# Altium footprint library con-hirose.PCBLIB: 71 footprints (part 5 of 6)
Each footprint in its own frame and in the unit in brackets; x right, y up, seen from the top. Pads: shape width x height; smd on the part's side, far side on the other; paste and mask are expansions set on the pad; w line width, h text height; cw(c..) or ccw(c..) is an arc to the next point about the centre after c.
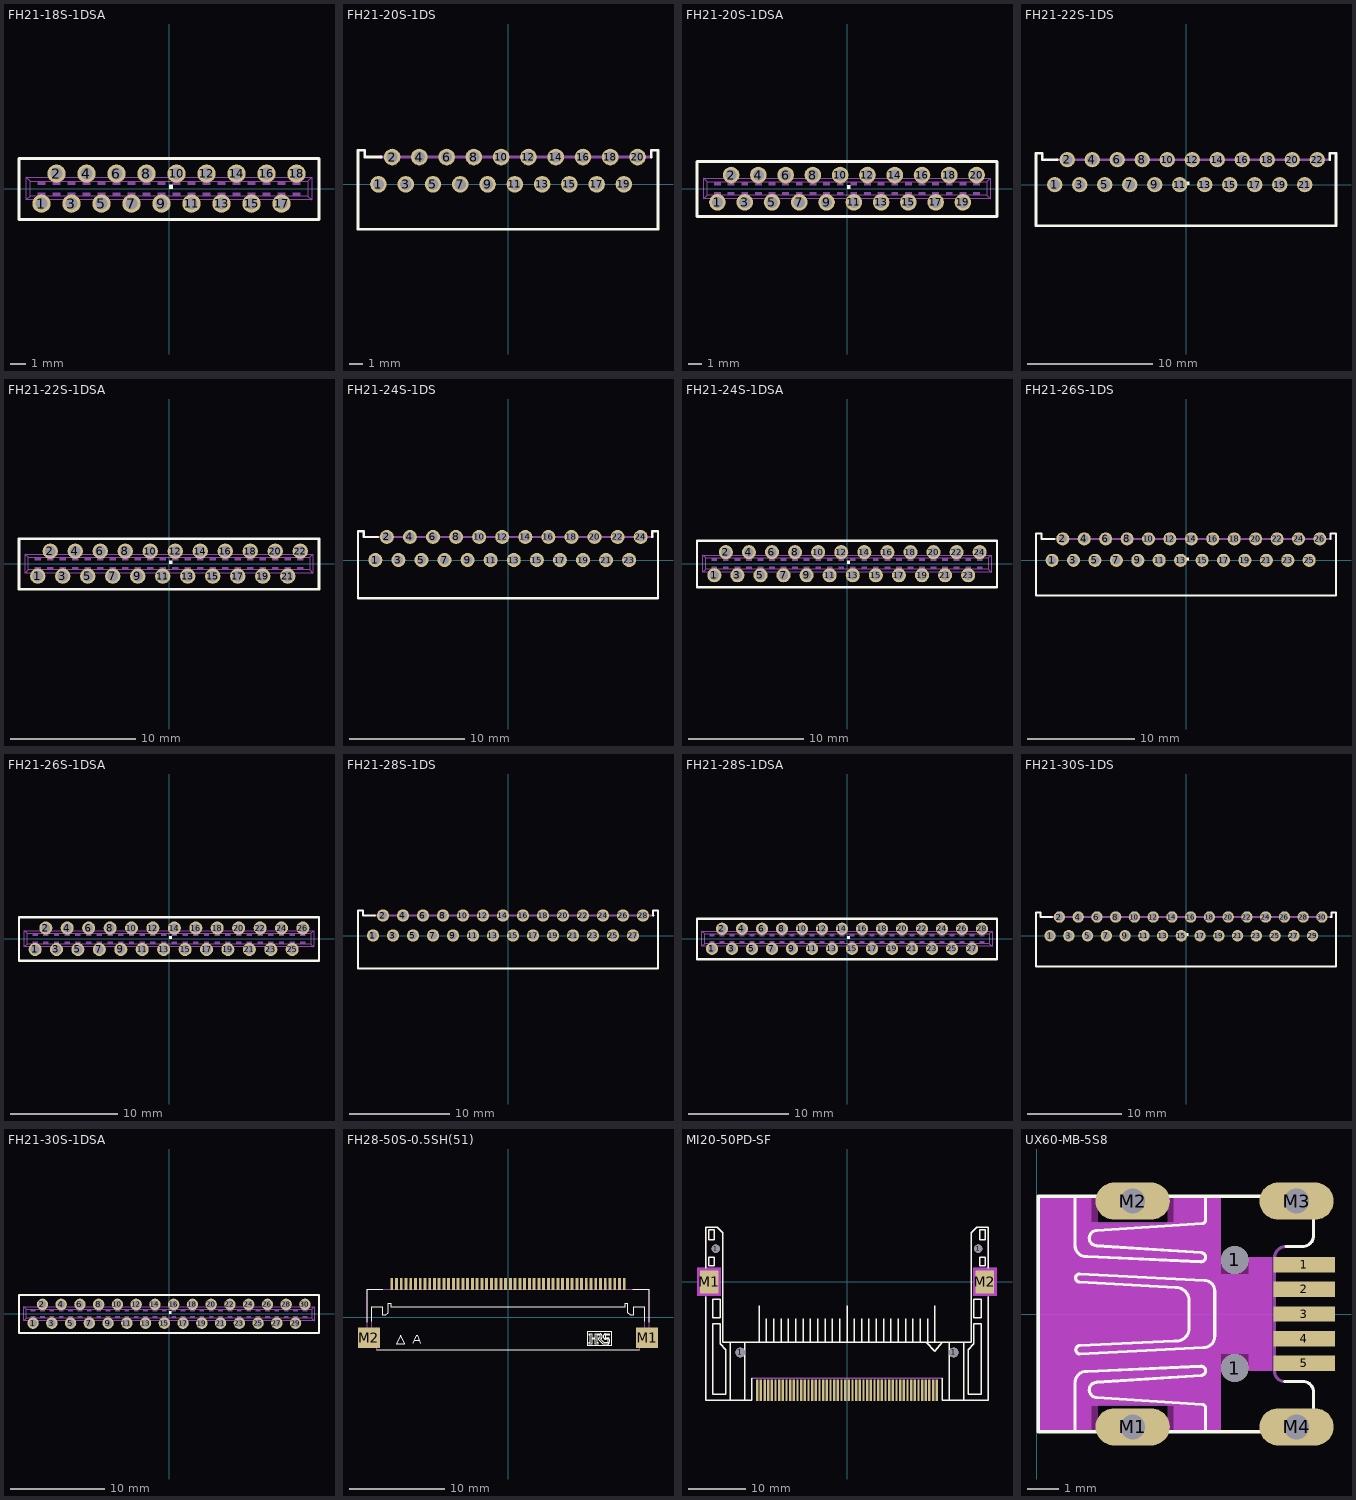
[diagram p4: the footprints below, top view; thin cyan lines are the x and y axes]

## FH21-18S-1DSA [mil]
pads (18):
  round 48 hole 32: 1(-334.65,-39.37) 2(-295.28,39.37) 3(-255.91,-39.37) 4(-216.54,39.37) 5(-177.17,-39.37) 6(-137.8,39.37) 7(-98.43,-39.37) 8(-59.06,39.37) 9(-19.69,-39.37) 10(19.69,39.37) 11(59.06,-39.37) 12(98.43,39.37) 13(137.8,-39.37) 14(177.17,39.37) 15(216.54,-39.37) 16(255.91,39.37) 17(295.28,-39.37) 18(334.65,39.37)
Top Overlay:
  region: 0,0 10,0 10,10 0,10
  lines w8: -393.7,-80.71 393.7,-80.71 393.7,78.74 -393.7,78.74 -393.7,-80.71
Mechanical 16:
  rectangle: -344.49,-19.69 -324.8,-9.84
  rectangle: -344.49,9.84 -324.8,19.69
  rectangle: -305.12,9.84 -285.43,19.69
  rectangle: -305.12,-19.69 -285.43,-9.84
  rectangle: -265.75,9.84 -246.06,19.69
  rectangle: -265.75,-19.69 -246.06,-9.84
  rectangle: -226.38,9.84 -206.69,19.69
  rectangle: -226.38,-19.69 -206.69,-9.84
  rectangle: -187.01,9.84 -167.32,19.69
  rectangle: -187.01,-19.69 -167.32,-9.84
  rectangle: -147.64,9.84 -127.95,19.69
  rectangle: -147.64,-19.69 -127.95,-9.84
  rectangle: -108.27,9.84 -88.58,19.69
  rectangle: -68.9,9.84 -49.21,19.69
  rectangle: -29.53,9.84 -9.84,19.69
  rectangle: 9.84,9.84 29.53,19.69
  rectangle: -108.27,-19.69 -88.58,-9.84
  rectangle: -68.9,-19.69 -49.21,-9.84
  rectangle: -29.53,-19.69 -9.84,-9.84
  rectangle: 9.84,-19.69 29.53,-9.84
  rectangle: 88.58,9.84 108.27,19.69
  rectangle: 49.21,9.84 68.9,19.69
  rectangle: 49.21,-19.69 68.9,-9.84
  rectangle: 88.58,-19.69 108.27,-9.84
  rectangle: 127.95,9.84 147.64,19.69
  rectangle: 167.32,9.84 187.01,19.69
  rectangle: 127.95,-19.69 147.64,-9.84
  rectangle: 167.32,-19.69 187.01,-9.84
  rectangle: 206.69,9.84 226.38,19.69
  rectangle: 246.06,9.84 265.75,19.69
  rectangle: 206.69,-19.69 226.38,-9.84
  rectangle: 246.06,-19.69 265.75,-9.84
  rectangle: 285.43,9.84 305.12,19.69
  rectangle: 324.8,9.84 344.49,19.69
  rectangle: 285.43,-19.69 305.12,-9.84
  rectangle: 324.8,-19.69 344.49,-9.84
  lines w2: -374.02,-29.53 374.02,-29.53 ; -374.02,-29.53 -374.02,29.53 ; -374.02,-29.53 -364.17,-19.69 ; -374.02,29.53 374.02,29.53 ; -374.02,29.53 -364.17,19.69 ; -364.17,-19.69 364.17,-19.69 ; -364.17,-19.69 -364.17,19.69 ; -364.17,19.69 364.17,19.69 ; 364.17,-19.69 364.17,19.69 ; 364.17,-19.69 374.02,-29.53 ; 364.17,19.69 374.02,29.53 ; 374.02,-29.53 374.02,29.53

## FH21-20S-1DS [mil]
pads (20):
  round 48 hole 32: 1(-374.02,0) 2(-334.65,78.74) 3(-295.28,0) 4(-255.91,78.74) 5(-216.54,0) 6(-177.17,78.74) 7(-137.8,0) 8(-98.43,78.74) 9(-59.06,0) 10(-19.69,78.74) 11(19.69,0) 12(59.06,78.74) 13(98.43,0) 14(137.8,78.74) 15(177.17,0) 16(216.54,78.74) 17(255.91,0) 18(295.28,78.74) 19(334.65,0) 20(374.02,78.74)
Top Overlay:
  region: 0,0 10,0 10,10 0,10
  lines w8: -366.14,78.74 -413.39,78.74 -413.39,98.43 -433.07,98.43 -433.07,-129.92 433.07,-129.92 433.07,98.43 413.39,98.43 413.39,78.74
Mechanical 16:
  lines w8: -366.14,78.74 413.39,78.74

## FH21-20S-1DSA [mil]
pads (20):
  round 48 hole 32: 1(-374.02,-39.37) 2(-334.65,39.37) 3(-295.28,-39.37) 4(-255.91,39.37) 5(-216.54,-39.37) 6(-177.17,39.37) 7(-137.8,-39.37) 8(-98.43,39.37) 9(-59.06,-39.37) 10(-19.69,39.37) 11(19.69,-39.37) 12(59.06,39.37) 13(98.43,-39.37) 14(137.8,39.37) 15(177.17,-39.37) 16(216.54,39.37) 17(255.91,-39.37) 18(295.28,39.37) 19(334.65,-39.37) 20(374.02,39.37)
Top Overlay:
  region: 0,0 10,0 10,10 0,10
  lines w8: -433.07,-80.71 433.07,-80.71 433.07,78.74 -433.07,78.74 -433.07,-80.71
Mechanical 16:
  rectangle: -383.86,-19.69 -364.17,-9.84
  rectangle: -383.86,9.84 -364.17,19.69
  rectangle: -344.49,9.84 -324.8,19.69
  rectangle: -344.49,-19.69 -324.8,-9.84
  rectangle: -305.12,9.84 -285.43,19.69
  rectangle: -305.12,-19.69 -285.43,-9.84
  rectangle: -265.75,9.84 -246.06,19.69
  rectangle: -265.75,-19.69 -246.06,-9.84
  rectangle: -226.38,9.84 -206.69,19.69
  rectangle: -226.38,-19.69 -206.69,-9.84
  rectangle: -187.01,9.84 -167.32,19.69
  rectangle: -187.01,-19.69 -167.32,-9.84
  rectangle: -147.64,9.84 -127.95,19.69
  rectangle: -108.27,9.84 -88.58,19.69
  rectangle: -68.9,9.84 -49.21,19.69
  rectangle: -29.53,9.84 -9.84,19.69
  rectangle: -147.64,-19.69 -127.95,-9.84
  rectangle: -108.27,-19.69 -88.58,-9.84
  rectangle: -68.9,-19.69 -49.21,-9.84
  rectangle: -29.53,-19.69 -9.84,-9.84
  rectangle: 49.21,9.84 68.9,19.69
  rectangle: 9.84,9.84 29.53,19.69
  rectangle: 9.84,-19.69 29.53,-9.84
  rectangle: 49.21,-19.69 68.9,-9.84
  rectangle: 88.58,9.84 108.27,19.69
  rectangle: 127.95,9.84 147.64,19.69
  rectangle: 88.58,-19.69 108.27,-9.84
  rectangle: 127.95,-19.69 147.64,-9.84
  rectangle: 167.32,9.84 187.01,19.69
  rectangle: 206.69,9.84 226.38,19.69
  rectangle: 167.32,-19.69 187.01,-9.84
  rectangle: 206.69,-19.69 226.38,-9.84
  rectangle: 246.06,9.84 265.75,19.69
  rectangle: 285.43,9.84 305.12,19.69
  rectangle: 246.06,-19.69 265.75,-9.84
  rectangle: 285.43,-19.69 305.12,-9.84
  rectangle: 324.8,9.84 344.49,19.69
  rectangle: 364.17,9.84 383.86,19.69
  rectangle: 324.8,-19.69 344.49,-9.84
  rectangle: 364.17,-19.69 383.86,-9.84
  lines w2: -413.39,-29.53 413.39,-29.53 ; -413.39,-29.53 -413.39,29.53 ; -413.39,-29.53 -403.54,-19.69 ; -413.39,29.53 413.39,29.53 ; -413.39,29.53 -403.54,19.69 ; -403.54,-19.69 403.54,-19.69 ; -403.54,-19.69 -403.54,19.69 ; -403.54,19.69 403.54,19.69 ; 403.54,-19.69 403.54,19.69 ; 403.54,-19.69 413.39,-29.53 ; 403.54,19.69 413.39,29.53 ; 413.39,-29.53 413.39,29.53

## FH21-22S-1DS [mil]
pads (22):
  round 48 hole 32: 1(-413.39,0) 2(-374.02,78.74) 3(-334.65,0) 4(-295.28,78.74) 5(-255.91,0) 6(-216.54,78.74) 7(-177.17,0) 8(-137.8,78.74) 9(-98.43,0) 10(-59.06,78.74) 11(-19.69,0) 12(19.69,78.74) 13(59.06,0) 14(98.43,78.74) 15(137.8,0) 16(177.17,78.74) 17(216.54,0) 18(255.91,78.74) 19(295.28,0) 20(334.65,78.74) 21(374.02,0) 22(413.39,78.74)
Top Overlay:
  region: 0,0 10,0 10,10 0,10
  lines w8: -405.51,78.74 -452.76,78.74 -452.76,98.43 -472.44,98.43 -472.44,-129.92 472.44,-129.92 472.44,98.43 452.76,98.43 452.76,78.74
Mechanical 16:
  lines w8: -405.51,78.74 452.76,78.74

## FH21-22S-1DSA [mil]
pads (22):
  round 48 hole 32: 1(-413.39,-39.37) 2(-374.02,39.37) 3(-334.65,-39.37) 4(-295.28,39.37) 5(-255.91,-39.37) 6(-216.54,39.37) 7(-177.17,-39.37) 8(-137.8,39.37) 9(-98.43,-39.37) 10(-59.06,39.37) 11(-19.69,-39.37) 12(19.69,39.37) 13(59.06,-39.37) 14(98.43,39.37) 15(137.8,-39.37) 16(177.17,39.37) 17(216.54,-39.37) 18(255.91,39.37) 19(295.28,-39.37) 20(334.65,39.37) 21(374.02,-39.37) 22(413.39,39.37)
Top Overlay:
  region: 0,0 10,0 10,10 0,10
  lines w8: -472.44,-80.71 472.44,-80.71 472.44,78.74 -472.44,78.74 -472.44,-80.71
Mechanical 16:
  rectangle: -423.23,-19.69 -403.54,-9.84
  rectangle: -423.23,9.84 -403.54,19.69
  rectangle: -383.86,9.84 -364.17,19.69
  rectangle: -383.86,-19.69 -364.17,-9.84
  rectangle: -344.49,9.84 -324.8,19.69
  rectangle: -344.49,-19.69 -324.8,-9.84
  rectangle: -305.12,9.84 -285.43,19.69
  rectangle: -305.12,-19.69 -285.43,-9.84
  rectangle: -265.75,9.84 -246.06,19.69
  rectangle: -265.75,-19.69 -246.06,-9.84
  rectangle: -226.38,9.84 -206.69,19.69
  rectangle: -226.38,-19.69 -206.69,-9.84
  rectangle: -187.01,9.84 -167.32,19.69
  rectangle: -147.64,9.84 -127.95,19.69
  rectangle: -108.27,9.84 -88.58,19.69
  rectangle: -68.9,9.84 -49.21,19.69
  rectangle: -187.01,-19.69 -167.32,-9.84
  rectangle: -147.64,-19.69 -127.95,-9.84
  rectangle: -108.27,-19.69 -88.58,-9.84
  rectangle: -68.9,-19.69 -49.21,-9.84
  rectangle: 9.84,9.84 29.53,19.69
  rectangle: -29.53,9.84 -9.84,19.69
  rectangle: -29.53,-19.69 -9.84,-9.84
  rectangle: 9.84,-19.69 29.53,-9.84
  rectangle: 49.21,9.84 68.9,19.69
  rectangle: 88.58,9.84 108.27,19.69
  rectangle: 49.21,-19.69 68.9,-9.84
  rectangle: 88.58,-19.69 108.27,-9.84
  rectangle: 127.95,9.84 147.64,19.69
  rectangle: 167.32,9.84 187.01,19.69
  rectangle: 127.95,-19.69 147.64,-9.84
  rectangle: 167.32,-19.69 187.01,-9.84
  rectangle: 206.69,9.84 226.38,19.69
  rectangle: 246.06,9.84 265.75,19.69
  rectangle: 206.69,-19.69 226.38,-9.84
  rectangle: 246.06,-19.69 265.75,-9.84
  rectangle: 285.43,9.84 305.12,19.69
  rectangle: 324.8,9.84 344.49,19.69
  rectangle: 285.43,-19.69 305.12,-9.84
  rectangle: 324.8,-19.69 344.49,-9.84
  rectangle: 364.17,9.84 383.86,19.69
  rectangle: 403.54,9.84 423.23,19.69
  rectangle: 364.17,-19.69 383.86,-9.84
  rectangle: 403.54,-19.69 423.23,-9.84
  lines w2: -452.76,-29.53 452.76,-29.53 ; -452.76,-29.53 -452.76,29.53 ; -452.76,-29.53 -442.91,-19.69 ; -452.76,29.53 452.76,29.53 ; -452.76,29.53 -442.91,19.69 ; -442.91,-19.69 442.91,-19.69 ; -442.91,-19.69 -442.91,19.69 ; -442.91,19.69 442.91,19.69 ; 442.91,-19.69 442.91,19.69 ; 442.91,-19.69 452.76,-29.53 ; 442.91,19.69 452.76,29.53 ; 452.76,-29.53 452.76,29.53

## FH21-24S-1DS [mil]
pads (24):
  round 48 hole 32: 1(-452.76,0) 2(-413.39,78.74) 3(-374.02,0) 4(-334.65,78.74) 5(-295.28,0) 6(-255.91,78.74) 7(-216.54,0) 8(-177.17,78.74) 9(-137.8,0) 10(-98.43,78.74) 11(-59.06,0) 12(-19.69,78.74) 13(19.69,0) 14(59.06,78.74) 15(98.43,0) 16(137.8,78.74) 17(177.17,0) 18(216.54,78.74) 19(255.91,0) 20(295.28,78.74) 21(334.65,0) 22(374.02,78.74) 23(413.39,0) 24(452.76,78.74)
Top Overlay:
  region: 0,0 10,0 10,10 0,10
  lines w8: -444.88,78.74 -492.13,78.74 -492.13,98.43 -511.81,98.43 -511.81,-129.92 511.81,-129.92 511.81,98.43 492.13,98.43 492.13,78.74
Mechanical 16:
  lines w8: -444.88,78.74 492.13,78.74

## FH21-24S-1DSA [mil]
pads (24):
  round 48 hole 32: 1(-452.76,-39.37) 2(-413.39,39.37) 3(-374.02,-39.37) 4(-334.65,39.37) 5(-295.28,-39.37) 6(-255.91,39.37) 7(-216.54,-39.37) 8(-177.17,39.37) 9(-137.8,-39.37) 10(-98.43,39.37) 11(-59.06,-39.37) 12(-19.69,39.37) 13(19.69,-39.37) 14(59.06,39.37) 15(98.43,-39.37) 16(137.8,39.37) 17(177.17,-39.37) 18(216.54,39.37) 19(255.91,-39.37) 20(295.28,39.37) 21(334.65,-39.37) 22(374.02,39.37) 23(413.39,-39.37) 24(452.76,39.37)
Top Overlay:
  region: 0,0 10,0 10,10 0,10
  lines w8: -511.81,-80.71 511.81,-80.71 511.81,78.74 -511.81,78.74 -511.81,-80.71
Mechanical 16:
  rectangle: -462.6,-19.69 -442.91,-9.84
  rectangle: -462.6,9.84 -442.91,19.69
  rectangle: -423.23,9.84 -403.54,19.69
  rectangle: -423.23,-19.69 -403.54,-9.84
  rectangle: -383.86,9.84 -364.17,19.69
  rectangle: -383.86,-19.69 -364.17,-9.84
  rectangle: -344.49,9.84 -324.8,19.69
  rectangle: -344.49,-19.69 -324.8,-9.84
  rectangle: -305.12,9.84 -285.43,19.69
  rectangle: -305.12,-19.69 -285.43,-9.84
  rectangle: -265.75,9.84 -246.06,19.69
  rectangle: -265.75,-19.69 -246.06,-9.84
  rectangle: -226.38,9.84 -206.69,19.69
  rectangle: -187.01,9.84 -167.32,19.69
  rectangle: -147.64,9.84 -127.95,19.69
  rectangle: -108.27,9.84 -88.58,19.69
  rectangle: -226.38,-19.69 -206.69,-9.84
  rectangle: -187.01,-19.69 -167.32,-9.84
  rectangle: -147.64,-19.69 -127.95,-9.84
  rectangle: -108.27,-19.69 -88.58,-9.84
  rectangle: -29.53,9.84 -9.84,19.69
  rectangle: -68.9,9.84 -49.21,19.69
  rectangle: -68.9,-19.69 -49.21,-9.84
  rectangle: -29.53,-19.69 -9.84,-9.84
  rectangle: 9.84,9.84 29.53,19.69
  rectangle: 49.21,9.84 68.9,19.69
  rectangle: 9.84,-19.69 29.53,-9.84
  rectangle: 49.21,-19.69 68.9,-9.84
  rectangle: 88.58,9.84 108.27,19.69
  rectangle: 127.95,9.84 147.64,19.69
  rectangle: 88.58,-19.69 108.27,-9.84
  rectangle: 127.95,-19.69 147.64,-9.84
  rectangle: 167.32,9.84 187.01,19.69
  rectangle: 206.69,9.84 226.38,19.69
  rectangle: 167.32,-19.69 187.01,-9.84
  rectangle: 206.69,-19.69 226.38,-9.84
  rectangle: 246.06,9.84 265.75,19.69
  rectangle: 285.43,9.84 305.12,19.69
  rectangle: 246.06,-19.69 265.75,-9.84
  rectangle: 285.43,-19.69 305.12,-9.84
  rectangle: 324.8,9.84 344.49,19.69
  rectangle: 364.17,9.84 383.86,19.69
  rectangle: 324.8,-19.69 344.49,-9.84
  rectangle: 364.17,-19.69 383.86,-9.84
  rectangle: 403.54,9.84 423.23,19.69
  rectangle: 442.91,9.84 462.6,19.69
  rectangle: 403.54,-19.69 423.23,-9.84
  rectangle: 442.91,-19.69 462.6,-9.84
  lines w2: -492.13,-29.53 492.13,-29.53 ; -492.13,-29.53 -492.13,29.53 ; -492.13,-29.53 -482.28,-19.69 ; -492.13,29.53 492.13,29.53 ; -492.13,29.53 -482.28,19.69 ; -482.28,-19.69 482.28,-19.69 ; -482.28,-19.69 -482.28,19.69 ; -482.28,19.69 482.28,19.69 ; 482.28,-19.69 482.28,19.69 ; 482.28,-19.69 492.13,-29.53 ; 482.28,19.69 492.13,29.53 ; 492.13,-29.53 492.13,29.53

## FH21-26S-1DS [mil]
pads (26):
  round 48 hole 32: 1(-492.13,0) 2(-452.76,78.74) 3(-413.39,0) 4(-374.02,78.74) 5(-334.65,0) 6(-295.28,78.74) 7(-255.91,0) 8(-216.54,78.74) 9(-177.17,0) 10(-137.8,78.74) 11(-98.43,0) 12(-59.06,78.74) 13(-19.69,0) 14(19.69,78.74) 15(59.06,0) 16(98.43,78.74) 17(137.8,0) 18(177.17,78.74) 19(216.54,0) 20(255.91,78.74) 21(295.28,0) 22(334.65,78.74) 23(374.02,0) 24(413.39,78.74) 25(452.76,0) 26(492.13,78.74)
Top Overlay:
  region: 0,0 10,0 10,10 0,10
  lines w8: -484.25,78.74 -531.5,78.74 -531.5,98.43 -551.18,98.43 -551.18,-129.92 551.18,-129.92 551.18,98.43 531.5,98.43 531.5,78.74
Mechanical 16:
  lines w8: -484.25,78.74 531.5,78.74

## FH21-26S-1DSA [mil]
pads (26):
  round 48 hole 32: 1(-492.13,-39.37) 2(-452.76,39.37) 3(-413.39,-39.37) 4(-374.02,39.37) 5(-334.65,-39.37) 6(-295.28,39.37) 7(-255.91,-39.37) 8(-216.54,39.37) 9(-177.17,-39.37) 10(-137.8,39.37) 11(-98.43,-39.37) 12(-59.06,39.37) 13(-19.69,-39.37) 14(19.69,39.37) 15(59.06,-39.37) 16(98.43,39.37) 17(137.8,-39.37) 18(177.17,39.37) 19(216.54,-39.37) 20(255.91,39.37) 21(295.28,-39.37) 22(334.65,39.37) 23(374.02,-39.37) 24(413.39,39.37) 25(452.76,-39.37) 26(492.13,39.37)
Top Overlay:
  region: 0,0 10,0 10,10 0,10
  lines w8: -551.18,-80.71 551.18,-80.71 551.18,78.74 -551.18,78.74 -551.18,-80.71
Mechanical 16:
  rectangle: -501.97,-19.69 -482.28,-9.84
  rectangle: -501.97,9.84 -482.28,19.69
  rectangle: -462.6,9.84 -442.91,19.69
  rectangle: -462.6,-19.69 -442.91,-9.84
  rectangle: -423.23,9.84 -403.54,19.69
  rectangle: -423.23,-19.69 -403.54,-9.84
  rectangle: -383.86,9.84 -364.17,19.69
  rectangle: -383.86,-19.69 -364.17,-9.84
  rectangle: -344.49,9.84 -324.8,19.69
  rectangle: -344.49,-19.69 -324.8,-9.84
  rectangle: -305.12,9.84 -285.43,19.69
  rectangle: -305.12,-19.69 -285.43,-9.84
  rectangle: -265.75,9.84 -246.06,19.69
  rectangle: -226.38,9.84 -206.69,19.69
  rectangle: -187.01,9.84 -167.32,19.69
  rectangle: -147.64,9.84 -127.95,19.69
  rectangle: -265.75,-19.69 -246.06,-9.84
  rectangle: -226.38,-19.69 -206.69,-9.84
  rectangle: -187.01,-19.69 -167.32,-9.84
  rectangle: -147.64,-19.69 -127.95,-9.84
  rectangle: -68.9,9.84 -49.21,19.69
  rectangle: -108.27,9.84 -88.58,19.69
  rectangle: -108.27,-19.69 -88.58,-9.84
  rectangle: -68.9,-19.69 -49.21,-9.84
  rectangle: -29.53,9.84 -9.84,19.69
  rectangle: 9.84,9.84 29.53,19.69
  rectangle: -29.53,-19.69 -9.84,-9.84
  rectangle: 9.84,-19.69 29.53,-9.84
  rectangle: 49.21,9.84 68.9,19.69
  rectangle: 88.58,9.84 108.27,19.69
  rectangle: 49.21,-19.69 68.9,-9.84
  rectangle: 88.58,-19.69 108.27,-9.84
  rectangle: 127.95,9.84 147.64,19.69
  rectangle: 167.32,9.84 187.01,19.69
  rectangle: 127.95,-19.69 147.64,-9.84
  rectangle: 167.32,-19.69 187.01,-9.84
  rectangle: 206.69,9.84 226.38,19.69
  rectangle: 246.06,9.84 265.75,19.69
  rectangle: 206.69,-19.69 226.38,-9.84
  rectangle: 246.06,-19.69 265.75,-9.84
  rectangle: 285.43,9.84 305.12,19.69
  rectangle: 324.8,9.84 344.49,19.69
  rectangle: 285.43,-19.69 305.12,-9.84
  rectangle: 324.8,-19.69 344.49,-9.84
  rectangle: 364.17,9.84 383.86,19.69
  rectangle: 403.54,9.84 423.23,19.69
  rectangle: 364.17,-19.69 383.86,-9.84
  rectangle: 403.54,-19.69 423.23,-9.84
  rectangle: 442.91,9.84 462.6,19.69
  rectangle: 482.28,9.84 501.97,19.69
  rectangle: 442.91,-19.69 462.6,-9.84
  rectangle: 482.28,-19.69 501.97,-9.84
  lines w2: -531.5,-29.53 531.5,-29.53 ; -531.5,-29.53 -531.5,29.53 ; -531.5,-29.53 -521.65,-19.69 ; -531.5,29.53 531.5,29.53 ; -531.5,29.53 -521.65,19.69 ; -521.65,-19.69 521.65,-19.69 ; -521.65,-19.69 -521.65,19.69 ; -521.65,19.69 521.65,19.69 ; 521.65,-19.69 521.65,19.69 ; 521.65,-19.69 531.5,-29.53 ; 521.65,19.69 531.5,29.53 ; 531.5,-29.53 531.5,29.53

## FH21-28S-1DS [mil]
pads (28):
  round 48 hole 32: 1(-531.5,0) 2(-492.13,78.74) 3(-452.76,0) 4(-413.39,78.74) 5(-374.02,0) 6(-334.65,78.74) 7(-295.28,0) 8(-255.91,78.74) 9(-216.54,0) 10(-177.17,78.74) 11(-137.8,0) 12(-98.43,78.74) 13(-59.06,0) 14(-19.69,78.74) 15(19.69,0) 16(59.06,78.74) 17(98.43,0) 18(137.8,78.74) 19(177.17,0) 20(216.54,78.74) 21(255.91,0) 22(295.28,78.74) 23(334.65,0) 24(374.02,78.74) 25(413.39,0) 26(452.76,78.74) 27(492.13,0) 28(531.5,78.74)
Top Overlay:
  region: 0,0 10,0 10,10 0,10
  lines w8: -523.62,78.74 -570.87,78.74 -570.87,98.43 -590.55,98.43 -590.55,-129.92 590.55,-129.92 590.55,98.43 570.87,98.43 570.87,78.74 571.85,78.74
Mechanical 16:
  lines w8: -523.62,78.74 570.87,78.74

## FH21-28S-1DSA [mil]
pads (28):
  round 48 hole 32: 1(-531.5,-39.37) 2(-492.13,39.37) 3(-452.76,-39.37) 4(-413.39,39.37) 5(-374.02,-39.37) 6(-334.65,39.37) 7(-295.28,-39.37) 8(-255.91,39.37) 9(-216.54,-39.37) 10(-177.17,39.37) 11(-137.8,-39.37) 12(-98.43,39.37) 13(-59.06,-39.37) 14(-19.69,39.37) 15(19.69,-39.37) 16(59.06,39.37) 17(98.43,-39.37) 18(137.8,39.37) 19(177.17,-39.37) 20(216.54,39.37) 21(255.91,-39.37) 22(295.28,39.37) 23(334.65,-39.37) 24(374.02,39.37) 25(413.39,-39.37) 26(452.76,39.37) 27(492.13,-39.37) 28(531.5,39.37)
Top Overlay:
  region: 0,0 10,0 10,10 0,10
  lines w8: -590.55,-80.71 590.55,-80.71 590.55,78.74 -590.55,78.74 -590.55,-80.71
Mechanical 16:
  rectangle: -541.34,-19.69 -521.65,-9.84
  rectangle: -541.34,9.84 -521.65,19.69
  rectangle: -501.97,9.84 -482.28,19.69
  rectangle: -501.97,-19.69 -482.28,-9.84
  rectangle: -462.6,9.84 -442.91,19.69
  rectangle: -462.6,-19.69 -442.91,-9.84
  rectangle: -423.23,9.84 -403.54,19.69
  rectangle: -423.23,-19.69 -403.54,-9.84
  rectangle: -383.86,9.84 -364.17,19.69
  rectangle: -383.86,-19.69 -364.17,-9.84
  rectangle: -344.49,9.84 -324.8,19.69
  rectangle: -344.49,-19.69 -324.8,-9.84
  rectangle: -305.12,9.84 -285.43,19.69
  rectangle: -265.75,9.84 -246.06,19.69
  rectangle: -226.38,9.84 -206.69,19.69
  rectangle: -187.01,9.84 -167.32,19.69
  rectangle: -305.12,-19.69 -285.43,-9.84
  rectangle: -265.75,-19.69 -246.06,-9.84
  rectangle: -226.38,-19.69 -206.69,-9.84
  rectangle: -187.01,-19.69 -167.32,-9.84
  rectangle: -108.27,9.84 -88.58,19.69
  rectangle: -147.64,9.84 -127.95,19.69
  rectangle: -147.64,-19.69 -127.95,-9.84
  rectangle: -108.27,-19.69 -88.58,-9.84
  rectangle: -68.9,9.84 -49.21,19.69
  rectangle: -29.53,9.84 -9.84,19.69
  rectangle: -68.9,-19.69 -49.21,-9.84
  rectangle: -29.53,-19.69 -9.84,-9.84
  rectangle: 9.84,9.84 29.53,19.69
  rectangle: 49.21,9.84 68.9,19.69
  rectangle: 9.84,-19.69 29.53,-9.84
  rectangle: 49.21,-19.69 68.9,-9.84
  rectangle: 88.58,9.84 108.27,19.69
  rectangle: 127.95,9.84 147.64,19.69
  rectangle: 88.58,-19.69 108.27,-9.84
  rectangle: 127.95,-19.69 147.64,-9.84
  rectangle: 167.32,9.84 187.01,19.69
  rectangle: 206.69,9.84 226.38,19.69
  rectangle: 167.32,-19.69 187.01,-9.84
  rectangle: 206.69,-19.69 226.38,-9.84
  rectangle: 246.06,9.84 265.75,19.69
  rectangle: 285.43,9.84 305.12,19.69
  rectangle: 246.06,-19.69 265.75,-9.84
  rectangle: 285.43,-19.69 305.12,-9.84
  rectangle: 324.8,9.84 344.49,19.69
  rectangle: 364.17,9.84 383.86,19.69
  rectangle: 324.8,-19.69 344.49,-9.84
  rectangle: 364.17,-19.69 383.86,-9.84
  rectangle: 403.54,9.84 423.23,19.69
  rectangle: 442.91,9.84 462.6,19.69
  rectangle: 403.54,-19.69 423.23,-9.84
  rectangle: 442.91,-19.69 462.6,-9.84
  rectangle: 482.28,9.84 501.97,19.69
  rectangle: 521.65,9.84 541.34,19.69
  rectangle: 482.28,-19.69 501.97,-9.84
  rectangle: 521.65,-19.69 541.34,-9.84
  lines w2: -570.87,-29.53 570.87,-29.53 ; -570.87,-29.53 -570.87,29.53 ; -570.87,-29.53 -561.02,-19.69 ; -570.87,29.53 570.87,29.53 ; -570.87,29.53 -561.02,19.69 ; -561.02,-19.69 561.02,-19.69 ; -561.02,-19.69 -561.02,19.69 ; -561.02,19.69 561.02,19.69 ; 561.02,-19.69 561.02,19.69 ; 561.02,-19.69 570.87,-29.53 ; 561.02,19.69 570.87,29.53 ; 570.87,-29.53 570.87,29.53

## FH21-30S-1DS [mil]
pads (30):
  round 48 hole 32: 1(-570.87,0) 2(-531.5,78.74) 3(-492.13,0) 4(-452.76,78.74) 5(-413.39,0) 6(-374.02,78.74) 7(-334.65,0) 8(-295.28,78.74) 9(-255.91,0) 10(-216.54,78.74) 11(-177.17,0) 12(-137.8,78.74) 13(-98.43,0) 14(-59.06,78.74) 15(-19.69,0) 16(19.69,78.74) 17(59.06,0) 18(98.43,78.74) 19(137.8,0) 20(177.17,78.74) 21(216.54,0) 22(255.91,78.74) 23(295.28,0) 24(334.65,78.74) 25(374.02,0) 26(413.39,78.74) 27(452.76,0) 28(492.13,78.74) 29(531.5,0) 30(570.87,78.74)
Top Overlay:
  region: 0,0 10,0 10,10 0,10
  lines w8: -562.99,78.74 -610.24,78.74 -610.24,98.43 -629.92,98.43 -629.92,-129.92 629.92,-129.92 629.92,98.43 610.24,98.43 610.24,78.74 607.48,78.74
Mechanical 16:
  lines w8: -562.99,78.74 610.24,78.74

## FH21-30S-1DSA [mil]
pads (30):
  round 48 hole 32: 1(-570.87,-39.37) 2(-531.5,39.37) 3(-492.13,-39.37) 4(-452.76,39.37) 5(-413.39,-39.37) 6(-374.02,39.37) 7(-334.65,-39.37) 8(-295.28,39.37) 9(-255.91,-39.37) 10(-216.54,39.37) 11(-177.17,-39.37) 12(-137.8,39.37) 13(-98.43,-39.37) 14(-59.06,39.37) 15(-19.69,-39.37) 16(19.69,39.37) 17(59.06,-39.37) 18(98.43,39.37) 19(137.8,-39.37) 20(177.17,39.37) 21(216.54,-39.37) 22(255.91,39.37) 23(295.28,-39.37) 24(334.65,39.37) 25(374.02,-39.37) 26(413.39,39.37) 27(452.76,-39.37) 28(492.13,39.37) 29(531.5,-39.37) 30(570.87,39.37)
Top Overlay:
  region: 0,0 10,0 10,10 0,10
  lines w8: -629.92,-80.71 629.92,-80.71 629.92,78.74 -629.92,78.74 -629.92,-80.71
Mechanical 16:
  rectangle: -580.71,-19.69 -561.02,-9.84
  rectangle: -580.71,9.84 -561.02,19.69
  rectangle: -541.34,9.84 -521.65,19.69
  rectangle: -541.34,-19.69 -521.65,-9.84
  rectangle: -501.97,9.84 -482.28,19.69
  rectangle: -501.97,-19.69 -482.28,-9.84
  rectangle: -462.6,9.84 -442.91,19.69
  rectangle: -462.6,-19.69 -442.91,-9.84
  rectangle: -423.23,9.84 -403.54,19.69
  rectangle: -423.23,-19.69 -403.54,-9.84
  rectangle: -383.86,9.84 -364.17,19.69
  rectangle: -383.86,-19.69 -364.17,-9.84
  rectangle: -344.49,9.84 -324.8,19.69
  rectangle: -305.12,9.84 -285.43,19.69
  rectangle: -265.75,9.84 -246.06,19.69
  rectangle: -226.38,9.84 -206.69,19.69
  rectangle: -344.49,-19.69 -324.8,-9.84
  rectangle: -305.12,-19.69 -285.43,-9.84
  rectangle: -265.75,-19.69 -246.06,-9.84
  rectangle: -226.38,-19.69 -206.69,-9.84
  rectangle: -147.64,9.84 -127.95,19.69
  rectangle: -187.01,9.84 -167.32,19.69
  rectangle: -187.01,-19.69 -167.32,-9.84
  rectangle: -147.64,-19.69 -127.95,-9.84
  rectangle: -108.27,9.84 -88.58,19.69
  rectangle: -68.9,9.84 -49.21,19.69
  rectangle: -108.27,-19.69 -88.58,-9.84
  rectangle: -68.9,-19.69 -49.21,-9.84
  rectangle: -29.53,9.84 -9.84,19.69
  rectangle: 9.84,9.84 29.53,19.69
  rectangle: -29.53,-19.69 -9.84,-9.84
  rectangle: 9.84,-19.69 29.53,-9.84
  rectangle: 49.21,9.84 68.9,19.69
  rectangle: 88.58,9.84 108.27,19.69
  rectangle: 49.21,-19.69 68.9,-9.84
  rectangle: 88.58,-19.69 108.27,-9.84
  rectangle: 127.95,9.84 147.64,19.69
  rectangle: 167.32,9.84 187.01,19.69
  rectangle: 127.95,-19.69 147.64,-9.84
  rectangle: 167.32,-19.69 187.01,-9.84
  rectangle: 206.69,9.84 226.38,19.69
  rectangle: 246.06,9.84 265.75,19.69
  rectangle: 206.69,-19.69 226.38,-9.84
  rectangle: 246.06,-19.69 265.75,-9.84
  rectangle: 285.43,9.84 305.12,19.69
  rectangle: 324.8,9.84 344.49,19.69
  rectangle: 285.43,-19.69 305.12,-9.84
  rectangle: 324.8,-19.69 344.49,-9.84
  rectangle: 364.17,9.84 383.86,19.69
  rectangle: 403.54,9.84 423.23,19.69
  rectangle: 364.17,-19.69 383.86,-9.84
  rectangle: 403.54,-19.69 423.23,-9.84
  rectangle: 442.91,9.84 462.6,19.69
  rectangle: 482.28,9.84 501.97,19.69
  rectangle: 442.91,-19.69 462.6,-9.84
  rectangle: 482.28,-19.69 501.97,-9.84
  rectangle: 521.65,9.84 541.34,19.69
  rectangle: 561.02,9.84 580.71,19.69
  rectangle: 521.65,-19.69 541.34,-9.84
  rectangle: 561.02,-19.69 580.71,-9.84
  lines w2: -610.24,-29.53 610.24,-29.53 ; -610.24,-29.53 -610.24,29.53 ; -610.24,-29.53 -600.39,-19.69 ; -610.24,29.53 610.24,29.53 ; -610.24,29.53 -600.39,19.69 ; -600.39,-19.69 600.39,-19.69 ; -600.39,-19.69 -600.39,19.69 ; -600.39,19.69 600.39,19.69 ; 600.39,-19.69 600.39,19.69 ; 600.39,-19.69 610.24,-29.53 ; 600.39,19.69 610.24,29.53 ; 610.24,-29.53 610.24,29.53

## FH28-50S-0.5SH(51) [mm]
pads (52):
  rect 0.3x1.3 smd: 1(-12.25,3.5) 2(-11.75,3.5) 3(-11.25,3.5) 4(-10.75,3.5) 5(-10.25,3.5) 6(-9.75,3.5) 7(-9.25,3.5) 8(-8.75,3.5) 9(-8.25,3.5) 10(-7.75,3.5) 11(-7.25,3.5) 12(-6.75,3.5) 13(-6.25,3.5) 14(-5.75,3.5) 15(-5.25,3.5) 16(-4.75,3.5) 17(-4.25,3.5) 18(-3.75,3.5) 19(-3.25,3.5) 20(-2.75,3.5) 21(-2.25,3.5) 22(-1.75,3.5) 23(-1.25,3.5) 24(-0.75,3.5) 25(-0.25,3.5) 26(0.25,3.5) 27(0.75,3.5) 28(1.25,3.5) 29(1.75,3.5) 30(2.25,3.5) 31(2.75,3.5) 32(3.25,3.5) 33(3.75,3.5) 34(4.25,3.5) 35(4.75,3.5) 36(5.25,3.5) 37(5.75,3.5) 38(6.25,3.5) 39(6.75,3.5) 40(7.25,3.5) 41(7.75,3.5) 42(8.25,3.5) 43(8.75,3.5) 44(9.25,3.5) 45(9.75,3.5) 46(10.25,3.5) 47(10.75,3.5) 48(11.25,3.5) 49(11.75,3.5) 50(12.25,3.5)
  rect 2.3x2.2 smd: M1(14.65,-2.15) M2(-14.65,-2.15)
Top Overlay:
  lines w0.102: -14.841,-0.514 -14.841,2.948 -13.186,2.948 ; -14.427,-0.438 -14.427,1.045 -13.214,1.045 -13.214,0.217 -12.91,0.217 -12.69,0.438 -12.69,1.404 -12.303,1.404 -12.303,1.045 12.276,1.045 12.276,1.404 12.634,1.404 12.634,0.493 12.91,0.217 13.186,0.217 13.186,1.045 14.427,1.045 14.427,-0.438 ; -13.848,-3.479 13.821,-3.479 ; -9.969,-2.734 -9.61,-1.879 -9.583,-1.879 -9.224,-2.734 ; -9.831,-2.458 -9.362,-2.458 ; 13.159,2.948 14.814,2.948 14.814,-0.514 ; -11.79,-2.762 -10.879,-2.762 -11.321,-1.879 -11.79,-2.762 ; 8.386,-3.01 10.897,-3.01 10.897,-1.493 8.386,-1.493 8.386,-3.01 ; 8.579,-2.817 8.579,-2.652 8.69,-2.652 8.69,-1.879 8.579,-1.879 8.579,-1.741 8.828,-1.741 8.828,-2.155 9.186,-2.155 9.186,-1.741 9.71,-1.741 cw(c9.711,-1.907) 9.876,-1.907 9.876,-2.128 cw(c9.676,-2.127) 9.821,-2.265 cw(c9.188,-1.666) 9.793,-2.293 9.766,-2.321 10.096,-2.652 10.538,-2.652 10.538,-2.321 10.29,-2.321 cw(c10.289,-2.128) 10.097,-2.128 10.096,-1.907 cw(c10.262,-1.907) 10.262,-1.741 10.676,-1.741 10.676,-1.879 10.262,-1.879 10.262,-2.155 10.51,-2.155 cw(c10.51,-2.321) 10.676,-2.321 10.676,-2.652 cw(c10.51,-2.651) 10.51,-2.817 10.041,-2.817 9.572,-2.348 9.572,-2.155 9.71,-2.155 9.71,-1.879 9.324,-1.879 9.324,-2.652 9.462,-2.652 9.462,-2.817 9.186,-2.817 9.186,-2.321 8.828,-2.321 8.828,-2.817 8.579,-2.817
Top Solder:
  rectangle: -12.425,2.825 -12.075,4.175
  rectangle: -11.925,2.825 -11.575,4.175
  rectangle: -11.425,2.825 -11.075,4.175
  rectangle: -10.925,2.825 -10.575,4.175
  rectangle: -10.425,2.825 -10.075,4.175
  rectangle: -9.925,2.825 -9.575,4.175
  rectangle: -9.425,2.825 -9.075,4.175
  rectangle: -8.925,2.825 -8.575,4.175
  rectangle: -8.425,2.825 -8.075,4.175
  rectangle: -7.925,2.825 -7.575,4.175
  rectangle: -7.425,2.825 -7.075,4.175
  rectangle: -6.925,2.825 -6.575,4.175
  rectangle: -6.425,2.825 -6.075,4.175
  rectangle: -5.925,2.825 -5.575,4.175
  rectangle: -5.425,2.825 -5.075,4.175
  rectangle: -4.925,2.825 -4.575,4.175
  rectangle: -4.425,2.825 -4.075,4.175
  rectangle: -3.925,2.825 -3.575,4.175
  rectangle: -3.425,2.825 -3.075,4.175
  rectangle: -2.925,2.825 -2.575,4.175
  rectangle: -2.425,2.825 -2.075,4.175
  rectangle: -1.925,2.825 -1.575,4.175
  rectangle: -1.425,2.825 -1.075,4.175
  rectangle: -0.925,2.825 -0.575,4.175
  rectangle: -0.425,2.825 -0.075,4.175
  rectangle: 0.075,2.825 0.425,4.175
  rectangle: 0.575,2.825 0.925,4.175
  rectangle: 1.075,2.825 1.425,4.175
  rectangle: 1.575,2.825 1.925,4.175
  rectangle: 2.075,2.825 2.425,4.175
  rectangle: 2.575,2.825 2.925,4.175
  rectangle: 3.075,2.825 3.425,4.175
  rectangle: 3.575,2.825 3.925,4.175
  rectangle: 4.075,2.825 4.425,4.175
  rectangle: 4.575,2.825 4.925,4.175
  rectangle: 5.075,2.825 5.425,4.175
  rectangle: 5.575,2.825 5.925,4.175
  rectangle: 6.075,2.825 6.425,4.175
  rectangle: 6.575,2.825 6.925,4.175
  rectangle: 7.075,2.825 7.425,4.175
  rectangle: 7.575,2.825 7.925,4.175
  rectangle: 8.075,2.825 8.425,4.175
  rectangle: 8.575,2.825 8.925,4.175
  rectangle: 9.075,2.825 9.425,4.175
  rectangle: 9.575,2.825 9.925,4.175
  rectangle: 10.075,2.825 10.425,4.175
  rectangle: 10.575,2.825 10.925,4.175
  rectangle: 11.075,2.825 11.425,4.175
  rectangle: 11.575,2.825 11.925,4.175
  rectangle: 12.075,2.825 12.425,4.175
Mechanical 16:
  region: 12.35,2.95 12.35,3.65 12.15,3.65 12.15,2.95
  region: 11.85,2.95 11.85,3.65 11.65,3.65 11.65,2.95
  region: 11.35,2.95 11.35,3.65 11.15,3.65 11.15,2.95
  region: 10.85,2.95 10.85,3.65 10.65,3.65 10.65,2.95
  region: 10.35,2.95 10.35,3.65 10.15,3.65 10.15,2.95
  region: 9.85,2.95 9.85,3.65 9.65,3.65 9.65,2.95
  region: 9.35,2.95 9.35,3.65 9.15,3.65 9.15,2.95
  region: 8.85,2.95 8.85,3.65 8.65,3.65 8.65,2.95
  region: 8.35,2.95 8.35,3.65 8.15,3.65 8.15,2.95
  region: 7.85,2.95 7.85,3.65 7.65,3.65 7.65,2.95
  region: 7.35,2.95 7.35,3.65 7.15,3.65 7.15,2.95
  region: 6.85,2.95 6.85,3.65 6.65,3.65 6.65,2.95
  region: 6.35,2.95 6.35,3.65 6.15,3.65 6.15,2.95
  region: 5.85,2.95 5.85,3.65 5.65,3.65 5.65,2.95
  region: 5.35,2.95 5.35,3.65 5.15,3.65 5.15,2.95
  region: 4.85,2.95 4.85,3.65 4.65,3.65 4.65,2.95
  region: 4.35,2.95 4.35,3.65 4.15,3.65 4.15,2.95
  region: 3.85,2.95 3.85,3.65 3.65,3.65 3.65,2.95
  region: 3.35,2.95 3.35,3.65 3.15,3.65 3.15,2.95
  region: 2.85,2.95 2.85,3.65 2.65,3.65 2.65,2.95
  region: 2.35,2.95 2.35,3.65 2.15,3.65 2.15,2.95
  region: 1.85,2.95 1.85,3.65 1.65,3.65 1.65,2.95
  region: 1.35,2.95 1.35,3.65 1.15,3.65 1.15,2.95
  region: 0.85,2.95 0.85,3.65 0.65,3.65 0.65,2.95
  region: 0.35,2.95 0.35,3.65 0.15,3.65 0.15,2.95
  region: -0.15,2.95 -0.15,3.65 -0.35,3.65 -0.35,2.95
  region: -0.65,2.95 -0.65,3.65 -0.85,3.65 -0.85,2.95
  region: -1.15,2.95 -1.15,3.65 -1.35,3.65 -1.35,2.95
  region: -1.65,2.95 -1.65,3.65 -1.85,3.65 -1.85,2.95
  region: -2.15,2.95 -2.15,3.65 -2.35,3.65 -2.35,2.95
  region: -2.65,2.95 -2.65,3.65 -2.85,3.65 -2.85,2.95
  region: -3.15,2.95 -3.15,3.65 -3.35,3.65 -3.35,2.95
  region: -3.65,2.95 -3.65,3.65 -3.85,3.65 -3.85,2.95
  region: -4.15,2.95 -4.15,3.65 -4.35,3.65 -4.35,2.95
  region: -4.65,2.95 -4.65,3.65 -4.85,3.65 -4.85,2.95
  region: -5.15,2.95 -5.15,3.65 -5.35,3.65 -5.35,2.95
  region: -5.65,2.95 -5.65,3.65 -5.85,3.65 -5.85,2.95
  region: -6.15,2.95 -6.15,3.65 -6.35,3.65 -6.35,2.95
  region: -6.65,2.95 -6.65,3.65 -6.85,3.65 -6.85,2.95
  region: -7.15,2.95 -7.15,3.65 -7.35,3.65 -7.35,2.95
  region: -7.65,2.95 -7.65,3.65 -7.85,3.65 -7.85,2.95
  region: -8.15,2.95 -8.15,3.65 -8.35,3.65 -8.35,2.95
  region: -8.65,2.95 -8.65,3.65 -8.85,3.65 -8.85,2.95
  region: -9.15,2.95 -9.15,3.65 -9.35,3.65 -9.35,2.95
  region: -9.65,2.95 -9.65,3.65 -9.85,3.65 -9.85,2.95
  region: -10.15,2.95 -10.15,3.65 -10.35,3.65 -10.35,2.95
  region: -10.65,2.95 -10.65,3.65 -10.85,3.65 -10.85,2.95
  region: -11.15,2.95 -11.15,3.65 -11.35,3.65 -11.35,2.95
  region: -11.65,2.95 -11.65,3.65 -11.85,3.65 -11.85,2.95
  region: -12.15,2.95 -12.15,3.65 -12.35,3.65 -12.35,2.95
  lines w0.102: -14.427,1.045 -14.427,-1.438 -13.903,-1.438 ; -13.876,-2.679 -14.676,-2.679 cw(c-14.676,-2.514) -14.841,-2.514 -14.841,2.948 14.814,2.948 14.814,-2.514 cw(c14.648,-2.513) 14.648,-2.679 13.821,-2.679 ; -13.848,-3.479 -13.848,-1.079 ; 13.821,-3.479 13.821,-2.679 ; 13.821,-1.079 13.821,-1.438 ; 14.427,1.045 14.427,-1.438 13.821,-1.438 ; 13.821,-2.679 13.821,-1.438

## MI20-50PD-SF [mil]
pads (56):
  round 56 hole 56: 1(-895.67,226.38) 1(895.67,226.38)
  round 66 hole 66: 1(-728.35,-482.28) 1(728.35,-482.28)
  rect 16.13x147.64 smd: 1(612.5,-739.37) 2(562.5,-739.37) 3(512.5,-739.37) 4(462.5,-739.37) 5(412.5,-739.37) 6(362.5,-739.37) 7(312.5,-739.37) 8(262.5,-739.37) 9(212.5,-739.37) 10(162.5,-739.37) 11(112.5,-739.37) 12(62.5,-739.37) 13(12.5,-739.37) 14(-37.5,-739.37) 15(-87.5,-739.37) 16(-137.5,-739.37) 17(-187.5,-739.37) 18(-237.5,-739.37) 19(-287.5,-739.37) 20(-337.5,-739.37) 21(-387.5,-739.37) 22(-437.5,-739.37) 23(-487.5,-739.37) 24(-537.5,-739.37) 25(-587.5,-739.37) 26(587.5,-739.37) 27(537.5,-739.37) 28(487.5,-739.37) 29(437.5,-739.37) 30(387.5,-739.37) 31(337.5,-739.37) 32(287.5,-739.37) 33(237.5,-739.37) 34(187.5,-739.37) 35(137.5,-739.37) 36(87.5,-739.37) 37(37.5,-739.37) 38(-12.5,-739.37) 39(-62.5,-739.37) 40(-112.5,-739.37) 41(-162.5,-739.37) 42(-212.5,-739.37) 43(-262.5,-739.37) 44(-312.5,-739.37) 45(-362.5,-739.37) 46(-412.5,-739.37) 47(-462.5,-739.37) 48(-512.5,-739.37) 49(-562.5,-739.37) 50(-612.5,-739.37)
  rect 125.98x157.48 smd: M1(-940.26,-0.2) M2(940.26,-0.2)
Top Layer keep-out:
  rectangle: -1023.62,-98.43 -858.27,98.43
  rectangle: 858.27,-98.43 1023.62,98.43
Top Overlay:
  lines w10: -964.57,-100.98 -964.57,-807.09 -797.24,-807.09 ; -964.57,92.91 -964.57,374.02 -885.83,374.02 -846.46,334.65 -846.46,-413.39 -797.24,-413.39 ; -649.61,-659.45 -649.61,-807.09 -698.82,-807.09 ; -600,-414.37 -600,-164.37 ; -550,-414.37 -550,-251.87 ; -500,-414.37 -500,-251.87 ; -450,-414.37 -450,-251.87 ; -400,-414.37 -400,-251.87 ; -350,-414.37 -350,-251.87 ; -300,-414.37 -300,-251.87 ; -250,-414.37 -250,-251.87 ; -200,-414.37 -200,-251.87 ; -150,-414.37 -150,-251.87 ; -100,-414.37 -100,-251.87 ; -50,-414.37 -50,-251.87 ; 0,-414.37 0,-164.37 ; 50,-414.37 50,-251.87 ; 100,-414.37 100,-251.87 ; 150,-414.37 150,-251.87 ; 200,-414.37 200,-251.87 ; 250,-414.37 250,-251.87 ; 300,-414.37 300,-251.87 ; 350,-414.37 350,-251.87 ; 400,-414.37 400,-251.87 ; 450,-414.37 450,-251.87 ; 500,-414.37 500,-251.87 ; 540.16,-412.5 600,-472.34 650,-412.5 ; 550,-414.37 550,-251.87 ; 600,-414.37 600,-164.37 ; 649.61,-659.45 649.61,-807.09 698.82,-807.09 ; 964.57,-100.98 964.57,-807.09 797.24,-807.09 ; 964.57,92.91 964.57,374.02 885.83,374.02 846.46,334.65 846.46,-413.39 797.24,-413.39 ; -797.24,-807.09 -698.82,-807.09 ; -797.24,-807.09 -797.24,-413.39 ; -797.24,-413.39 -698.82,-413.39 ; -698.82,-807.09 -698.82,-413.39 ; -698.82,-413.39 698.82,-413.39 ; 698.82,-807.09 797.24,-807.09 ; 698.82,-807.09 698.82,-413.39 ; 698.82,-413.39 797.24,-413.39 ; 797.24,-807.09 797.24,-413.39 ; -944.88,108.27 -905.51,108.27 -905.51,167.32 -944.88,167.32 -944.88,108.27 ; -944.88,285.43 -905.51,285.43 -905.51,354.33 -944.88,354.33 -944.88,285.43 ; -915.35,-767.72 -826.77,-767.72 -826.77,-462.6 -866.14,-423.23 -866.14,-285.43 -915.35,-285.43 -915.35,-767.72 ; -915.35,-246.06 -866.14,-246.06 -866.14,-118.11 -915.35,-118.11 -915.35,-246.06 ; 826.77,-767.72 826.77,-462.6 866.14,-423.23 866.14,-285.43 915.35,-285.43 915.35,-767.72 826.77,-767.72 ; 866.14,-246.06 915.35,-246.06 915.35,-118.11 866.14,-118.11 866.14,-246.06 ; 905.51,108.27 905.51,167.32 944.88,167.32 944.88,108.27 905.51,108.27 ; 905.51,285.43 944.88,285.43 944.88,354.33 905.51,354.33 905.51,285.43
Top Solder:
  rectangle: -1016.78,-87.5 -866.78,87.5
  rectangle: 868.75,-87.5 1012.5,87.5
Mechanical 13:
  text "MI20-50PD-SF" at -226.38,-561.02 h77.5
Mechanical 16:
  lines w10: -964.57,-807.09 -964.57,374.02 ; -649.61,-659.45 649.61,-659.45 ; 964.57,-807.09 964.57,374.02
Mechanical 27:
  rectangle: -1023.62,-98.43 -858.27,98.43
  rectangle: 858.27,-98.43 1023.62,98.43

## UX60-MB-5S8 [mil]
pads (11):
  round 35.43 hole 35.43: 1(251.97,-68.9) 1(251.97,68.9)
  rect 78.74x19.69 smd: 1(340.55,62.99) 2(340.55,31.5) 3(340.55,0) 4(340.55,-31.5) 5(340.55,-62.99)
  oval 94.5x47.25 hole 31.5: M1(122.05,-143.7) M2(122.05,143.7) M3(330.71,143.7) M4(330.71,-143.7)
Top Layer keep-out:
  rectangle: 0,-151.57 77.76,151.57
  rectangle: 166.34,-151.57 234.25,151.57
  rectangle: 77.76,-115.16 166.34,115.16
  rectangle: 234.25,-72.83 300.2,72.83
Top Overlay:
  lines w4: 48.85,-147.65 48.85,-86.94 cw(c62.65,-86.94) 62.65,-73.14 64.3,-73.14 208.91,-66.52 cw(c209.17,-72.32) 209.46,-78.11 75.89,-86.94 ccw(c76.53,-96.59) 76.44,-106.26 210.56,-115.09 cw(c210.25,-119.82) 214.98,-120.06 214.98,-147.65 ; 48.85,147.63 48.85,86.92 ccw(c62.65,86.92) 62.65,73.12 64.3,73.12 208.91,66.5 ccw(c209.17,72.3) 209.46,78.09 75.89,86.92 cw(c76.53,96.57) 76.44,106.24 210.56,115.07 ccw(c210.25,119.79) 214.98,120.03 214.98,147.63 ; 315.43,-85.83 338.61,-85.83 cw(c338.61,-99.63) 352.41,-99.63 352.41,-149.86 1.93,-149.86 1.93,149.84 352.41,149.84 352.41,100.17 cw(c338.06,100.17) 338.06,85.82 317.08,85.82 ; 54.37,40.56 cw(c54.65,45.8) 54.92,51.04 213.32,42.76 cw(c213.32,29.51) 226.57,29.52 226.57,-28.44 cw(c212.22,-28.44) 212.22,-42.79 54.92,-51.06 cw(c55.18,-45.55) 54.92,-40.03 174.69,-34.51 177.44,-34.51 ccw(c177.44,-17.95) 194,-17.95 194,16.82 ccw(c176.89,16.82) 176.89,33.93 54.37,40.56
Mechanical 11:
  lines w0: 86.61,-143.7 ccw(c102.36,-143.7) 102.36,-159.45 141.73,-159.45 ccw(c141.73,-143.7) 157.48,-143.7 ccw(c141.73,-143.7) 141.73,-127.95 102.36,-127.95 ccw(c102.36,-143.7) 86.61,-143.7 ; 86.61,143.7 ccw(c102.36,143.7) 102.36,127.95 141.73,127.95 ccw(c141.73,143.7) 157.48,143.7 ccw(c141.73,143.7) 141.73,159.45 102.36,159.45 ccw(c102.36,143.7) 86.61,143.7 ; 295.28,-143.7 ccw(c311.02,-143.71) 311.02,-159.45 350.39,-159.45 ccw(c350.39,-143.7) 366.14,-143.7 ccw(c350.39,-143.7) 350.39,-127.95 311.02,-127.95 ccw(c311.02,-143.69) 295.28,-143.7 ; 295.28,143.7 ccw(c311.02,143.69) 311.02,127.95 350.39,127.95 ccw(c350.39,143.7) 366.14,143.7 ccw(c350.39,143.7) 350.39,159.45 311.02,159.45 ccw(c311.02,143.71) 295.28,143.7
Mechanical 16:
  rectangle: 303.28,56.56 354.61,69.81
  rectangle: 303.28,25.1 354.61,38.35
  rectangle: 303.28,-6.36 354.61,6.89
  rectangle: 303.28,-37.82 354.61,-24.57
  rectangle: 303.28,-69.28 354.61,-56.03
  lines w4: 315.43,-85.83 cw(c315.43,-73.14) 302.73,-73.14 302.73,71.46 cw(c317.08,71.47) 317.08,85.82
Mechanical 27:
  rectangle: 0,-151.57 69.88,151.57
  rectangle: 69.88,-117.13 174.21,117.13
  rectangle: 174.21,-151.57 234.25,151.57
  rectangle: 269.69,-72.83 300.2,72.83
  rectangle: 234.25,-51.18 269.69,51.18